# Altium integrated library Resistors.IntLib: 4954 symbols (part 20 of 32)
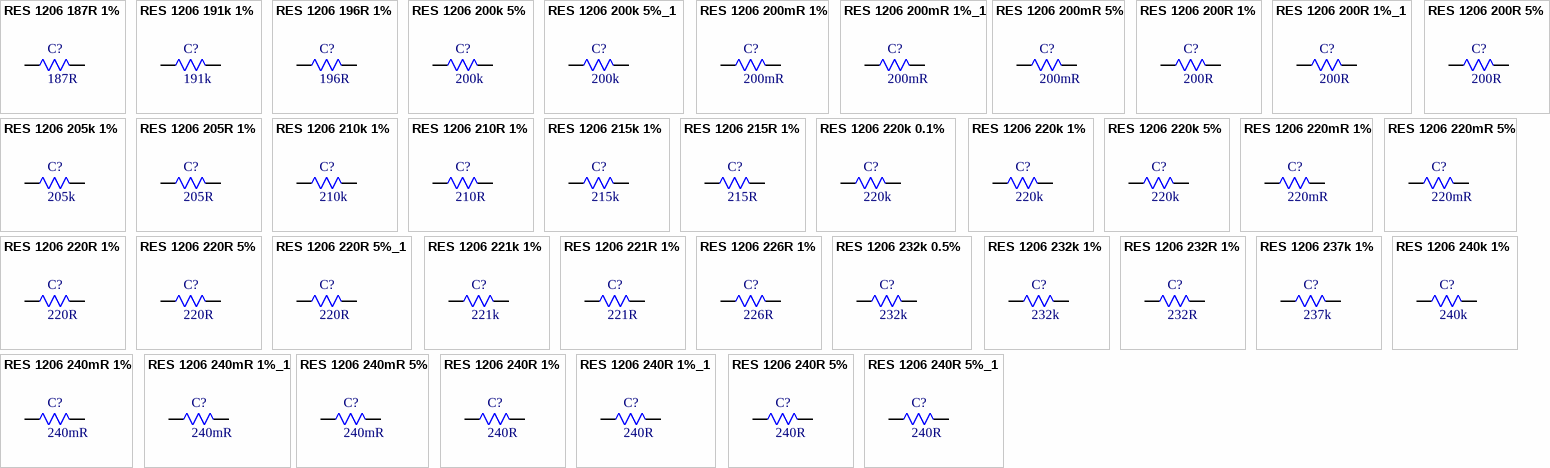
[diagram p142: symbols RES 1206 187R 1% to RES 1206 240R 5%_1]

## RES 1206 240R 5%
designator C?, comment 240R
240R 5% 250mW 1206 Thick Film Resistor; Manufacturer: FOJAN; Manufacturer Part Number: FRC1206J241 TS; Voltage Rating: 200V; Supplier: LCSC; Supplier Part Number: C2907459; Resistance: 240R; Tolerance: 5%; Power: 250mW
footprint RES SMD 1206
pins: 1, 2

## RES 1206 240R 5%_1
designator C?, comment 240R
240R 5% 250mW 1206 Thick Film Resistor; Manufacturer: FOJAN; Manufacturer Part Number: FRD1206J241 TS; Voltage Rating: 200V; Supplier: LCSC; Supplier Part Number: C2934215; Resistance: 240R; Tolerance: 5%; Power: 250mW
footprint RES SMD 1206
pins: 1, 2

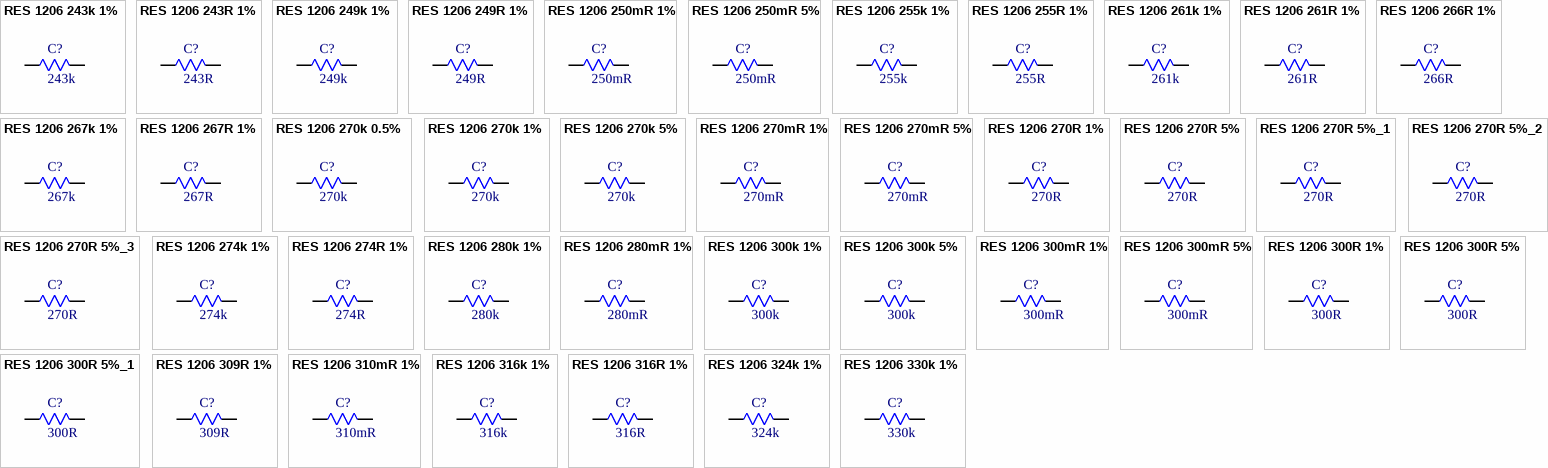
[diagram p76: symbols RES 1206 243k 1% to RES 1206 330k 1%]

## RES 1206 243k 1%
designator C?, comment 243k
250mW 243kR 200V Thick Film Resistor 1% 100ppm/â„ƒ 1206 Chip Resistor - Surface Mount RoHS; Manufacturer: FOJAN; Manufacturer Part Number: FRC1206F2433TS; Supplier: LCSC; Supplier Part Number: C7467380; Resistance: 243k; Tolerance: 1%; Voltage Rating: 200V; Power: 250mW
footprint RES SMD 1206
pins: 1, 2

## RES 1206 243R 1%
designator C?, comment 243R
243R 1% 250mW 1206 Thick Film Resistor; Manufacturer: FOJAN; Manufacturer Part Number: FRC1206F2430TS; Voltage Rating: 200V; Supplier: LCSC; Supplier Part Number: C3000573; Resistance: 243R; Tolerance: 1%; Power: 250mW
footprint RES SMD 1206
pins: 1, 2

## RES 1206 249k 1%
designator C?, comment 249k
249kR 1% 250mW 1206 Thick Film Resistor; Manufacturer: FOJAN; Manufacturer Part Number: FRC1206F2493TS; Voltage Rating: 200V; Supplier: LCSC; Supplier Part Number: C2960689; Resistance: 249k; Tolerance: 1%; Power: 250mW
footprint RES SMD 1206
pins: 1, 2

## RES 1206 249R 1%
designator C?, comment 249R
249R 1% 250mW 1206 Thick Film Resistor; Manufacturer: FOJAN; Manufacturer Part Number: FRC1206F2490TS; Voltage Rating: 200V; Supplier: LCSC; Supplier Part Number: C2974053; Resistance: 249R; Tolerance: 1%; Power: 250mW
footprint RES SMD 1206
pins: 1, 2

## RES 1206 250mR 1%
designator C?, comment 250mR
250mR 1% 250mW 1206 Thick Film Resistor; Manufacturer: FOJAN; Manufacturer Part Number: FRL1206FR250TS; Voltage Rating: 500V; Supplier: LCSC; Supplier Part Number: C2934292; Resistance: 250mR; Tolerance: 1%; Power: 250mW
footprint RES SMD 1206
pins: 1, 2

## RES 1206 250mR 5%
designator C?, comment 250mR
250mR 5% 250mW 1206 Thick Film Resistor; Manufacturer: FOJAN; Manufacturer Part Number: FRL1206JR250TS; Voltage Rating: 500V; Supplier: LCSC; Supplier Part Number: C2934302; Resistance: 250mR; Tolerance: 5%; Power: 250mW
footprint RES SMD 1206
pins: 1, 2

## RES 1206 255k 1%
designator C?, comment 255k
255kR 1% 250mW 1206 Thick Film Resistor; Manufacturer: FOJAN; Manufacturer Part Number: FRC1206F2553TS; Voltage Rating: 200V; Supplier: LCSC; Supplier Part Number: C2999527; Resistance: 255k; Tolerance: 1%; Power: 250mW
footprint RES SMD 1206
pins: 1, 2

## RES 1206 255R 1%
designator C?, comment 255R
255R 1% 250mW 1206 Thick Film Resistor; Manufacturer: FOJAN; Manufacturer Part Number: FRC1206F2550TS; Voltage Rating: 200V; Supplier: LCSC; Supplier Part Number: C5153985; Resistance: 255R; Tolerance: 1%; Power: 250mW
footprint RES SMD 1206
pins: 1, 2

## RES 1206 261k 1%
designator C?, comment 261k
261kR 1% 250mW 1206 Thick Film Resistor; Manufacturer: FOJAN; Manufacturer Part Number: FRC1206F2613TS; Voltage Rating: 200V; Supplier: LCSC; Supplier Part Number: C3000610; Resistance: 261k; Tolerance: 1%; Power: 250mW
footprint RES SMD 1206
pins: 1, 2

## RES 1206 261R 1%
designator C?, comment 261R
261R 1% 250mW 1206 Thick Film Resistor; Manufacturer: FOJAN; Manufacturer Part Number: FRC1206F2610TS; Voltage Rating: 200V; Supplier: LCSC; Supplier Part Number: C2933652; Resistance: 261R; Tolerance: 1%; Power: 250mW
footprint RES SMD 1206
pins: 1, 2

## RES 1206 266R 1%
designator C?, comment 266R
266R 1% 250mW 1206 Thick Film Resistor; Manufacturer: FOJAN; Manufacturer Part Number: FRC1206F2660TS; Voltage Rating: 200V; Supplier: LCSC; Supplier Part Number: C2999475; Resistance: 266R; Tolerance: 1%; Power: 250mW
footprint RES SMD 1206
pins: 1, 2

## RES 1206 267k 1%
designator C?, comment 267k
267kR 1% 250mW 1206 Thick Film Resistor; Manufacturer: FOJAN; Manufacturer Part Number: FRC1206F2673TS; Voltage Rating: 200V; Supplier: LCSC; Supplier Part Number: C5713324; Resistance: 267k; Tolerance: 1%; Power: 250mW
footprint RES SMD 1206
pins: 1, 2

## RES 1206 267R 1%
designator C?, comment 267R
267R 1% 250mW 1206 Thick Film Resistor; Manufacturer: FOJAN; Manufacturer Part Number: FRC1206F2670TS; Voltage Rating: 200V; Supplier: LCSC; Supplier Part Number: C2974054; Resistance: 267R; Tolerance: 1%; Power: 250mW
footprint RES SMD 1206
pins: 1, 2

## RES 1206 270k 0.5%
designator C?, comment 270k
250mW 270kR Thick Film Resistor 100ppm/â„ƒ 0.5% 1206 Chip Resistor - Surface Mount RoHS; Manufacturer: FOJAN; Manufacturer Part Number: FRH1206D2703TS; Supplier: LCSC; Supplier Part Number: C22375092; Resistance: 270k; Tolerance: 0.5%; Power: 250mW
footprint RES SMD 1206
pins: 1, 2

## RES 1206 270k 1%
designator C?, comment 270k
270kR 1% 250mW 1206 Thick Film Resistor; Manufacturer: FOJAN; Manufacturer Part Number: FRC1206F2703TS; Voltage Rating: 200V; Supplier: LCSC; Supplier Part Number: C2960856; Resistance: 270k; Tolerance: 1%; Power: 250mW
footprint RES SMD 1206
pins: 1, 2

## RES 1206 270k 5%
designator C?, comment 270k
270kR 5% 250mW 1206 Thick Film Resistor; Manufacturer: FOJAN; Manufacturer Part Number: FRC1206J274 TS; Voltage Rating: 200V; Supplier: LCSC; Supplier Part Number: C2907462; Resistance: 270k; Tolerance: 5%; Power: 250mW
footprint RES SMD 1206
pins: 1, 2

## RES 1206 270mR 1%
designator C?, comment 270mR
270mR 1% 250mW 1206 Thick Film Resistor; Manufacturer: FOJAN; Manufacturer Part Number: FRL1206FR270TS; Voltage Rating: 500V; Supplier: LCSC; Supplier Part Number: C2934293; Resistance: 270mR; Tolerance: 1%; Power: 250mW
footprint RES SMD 1206
pins: 1, 2

## RES 1206 270mR 5%
designator C?, comment 270mR
270mR 5% 250mW 1206 Thick Film Resistor; Manufacturer: FOJAN; Manufacturer Part Number: FRL1206JR270TS; Voltage Rating: 500V; Supplier: LCSC; Supplier Part Number: C2934303; Resistance: 270mR; Tolerance: 5%; Power: 250mW
footprint RES SMD 1206
pins: 1, 2

## RES 1206 270R 1%
designator C?, comment 270R
270R 1% 250mW 1206 Thick Film Resistor; Manufacturer: FOJAN; Manufacturer Part Number: FRC1206F2700TS; Voltage Rating: 200V; Supplier: LCSC; Supplier Part Number: C2933655; Resistance: 270R; Tolerance: 1%; Power: 250mW
footprint RES SMD 1206
pins: 1, 2

## RES 1206 270R 5%
designator C?, comment 270R
270R 5% 250mW 1206 Thick Film Resistor; Manufacturer: FOJAN; Manufacturer Part Number: FRC1206J271 TS; Voltage Rating: 200V; Supplier: LCSC; Supplier Part Number: C2907463; Resistance: 270R; Tolerance: 5%; Power: 250mW
footprint RES SMD 1206
pins: 1, 2

## RES 1206 270R 5%_1
designator C?, comment 270R
270R 5% 250mW 1206 Thick Film Resistor; Manufacturer: FOJAN; Manufacturer Part Number: FRD1206J271 TS; Voltage Rating: 200V; Supplier: LCSC; Supplier Part Number: C2934220; Resistance: 270R; Tolerance: 5%; Power: 250mW
footprint RES SMD 1206
pins: 1, 2

## RES 1206 270R 5%_2
designator C?, comment 270R
250mW 270R 200V Thick Film Resistor 100ppm/â„ƒ 5% 1206 Chip Resistor - Surface Mount RoHS; Manufacturer: FOJAN; Manufacturer Part Number: FRQ1206J271 TS; Supplier: LCSC; Supplier Part Number: C49196753; Resistance: 270R; Tolerance: 5%; Voltage Rating: 200V; Power: 250mW
footprint RES SMD 1206
pins: 1, 2

## RES 1206 270R 5%_3
designator C?, comment 270R
270R Thick Film Resistor 100ppm/â„ƒ 5% 1206 Chip Resistor - Surface Mount RoHS; Manufacturer: FOJAN; Manufacturer Part Number: FRS1206J271 TS; Supplier: LCSC; Supplier Part Number: C51048118; Resistance: 270R; Tolerance: 5%
footprint RES SMD 1206
pins: 1, 2

## RES 1206 274k 1%
designator C?, comment 274k
274kR 1% 250mW 1206 Thick Film Resistor; Manufacturer: FOJAN; Manufacturer Part Number: FRC1206F2743TS; Voltage Rating: 200V; Supplier: LCSC; Supplier Part Number: C5126129; Resistance: 274k; Tolerance: 1%; Power: 250mW
footprint RES SMD 1206
pins: 1, 2

## RES 1206 274R 1%
designator C?, comment 274R
274R 1% 250mW 1206 Thick Film Resistor; Manufacturer: FOJAN; Manufacturer Part Number: FRC1206F2740TS; Voltage Rating: 200V; Supplier: LCSC; Supplier Part Number: C2974055; Resistance: 274R; Tolerance: 1%; Power: 250mW
footprint RES SMD 1206
pins: 1, 2

## RES 1206 280k 1%
designator C?, comment 280k
280kR 1% 250mW 1206 Thick Film Resistor; Manufacturer: FOJAN; Manufacturer Part Number: FRC1206F2803TS; Voltage Rating: 200V; Supplier: LCSC; Supplier Part Number: C2933657; Resistance: 280k; Tolerance: 1%; Power: 250mW
footprint RES SMD 1206
pins: 1, 2

## RES 1206 280mR 1%
designator C?, comment 280mR
280mR 1% 250mW 1206 Thick Film Resistor; Manufacturer: FOJAN; Manufacturer Part Number: FRL1206FR280TS; Voltage Rating: 500V; Supplier: LCSC; Supplier Part Number: C2999503; Resistance: 280mR; Tolerance: 1%; Power: 250mW
footprint RES SMD 1206
pins: 1, 2

## RES 1206 300k 1%
designator C?, comment 300k
300kR 1% 250mW 1206 Thick Film Resistor; Manufacturer: FOJAN; Manufacturer Part Number: FRC1206F3003TS; Voltage Rating: 200V; Supplier: LCSC; Supplier Part Number: C2933671; Resistance: 300k; Tolerance: 1%; Power: 250mW
footprint RES SMD 1206
pins: 1, 2

## RES 1206 300k 5%
designator C?, comment 300k
300kR 5% 250mW 1206 Thick Film Resistor; Manufacturer: FOJAN; Manufacturer Part Number: FRD1206J304 TS; Voltage Rating: 200V; Supplier: LCSC; Supplier Part Number: C2934224; Resistance: 300k; Tolerance: 5%; Power: 250mW
footprint RES SMD 1206
pins: 1, 2

## RES 1206 300mR 1%
designator C?, comment 300mR
300mR 1% 250mW 1206 Thick Film Resistor; Manufacturer: FOJAN; Manufacturer Part Number: FRL1206FR300TS; Voltage Rating: 500V; Supplier: LCSC; Supplier Part Number: C2907354; Resistance: 300mR; Tolerance: 1%; Power: 250mW
footprint RES SMD 1206
pins: 1, 2

## RES 1206 300mR 5%
designator C?, comment 300mR
300mR 5% 250mW 1206 Thick Film Resistor; Manufacturer: FOJAN; Manufacturer Part Number: FRL1206JR300TS; Voltage Rating: 500V; Supplier: LCSC; Supplier Part Number: C2907398; Resistance: 300mR; Tolerance: 5%; Power: 250mW
footprint RES SMD 1206
pins: 1, 2

## RES 1206 300R 1%
designator C?, comment 300R
300R 1% 250mW 1206 Thick Film Resistor; Manufacturer: FOJAN; Manufacturer Part Number: FRC1206F3000TS; Voltage Rating: 200V; Supplier: LCSC; Supplier Part Number: C2933670; Resistance: 300R; Tolerance: 1%; Power: 250mW
footprint RES SMD 1206
pins: 1, 2

## RES 1206 300R 5%
designator C?, comment 300R
300R 5% 250mW 1206 Thick Film Resistor; Manufacturer: FOJAN; Manufacturer Part Number: FRC1206J301 TS; Voltage Rating: 200V; Supplier: LCSC; Supplier Part Number: C3013269; Resistance: 300R; Tolerance: 5%; Power: 250mW
footprint RES SMD 1206
pins: 1, 2

## RES 1206 300R 5%_1
designator C?, comment 300R
300R 500mW Thick Film Resistor 5% 100ppm/â„ƒ 1206 Chip Resistor - Surface Mount RoHS; Manufacturer: FOJAN; Manufacturer Part Number: FRS1206J301 TS; Supplier: LCSC; Supplier Part Number: C7468013; Resistance: 300R; Tolerance: 5%; Power: 500mW
footprint RES SMD 1206
pins: 1, 2

## RES 1206 309R 1%
designator C?, comment 309R
309R 1% 250mW 1206 Thick Film Resistor; Manufacturer: FOJAN; Manufacturer Part Number: FRC1206F3090TS; Voltage Rating: 200V; Supplier: LCSC; Supplier Part Number: C2933672; Resistance: 309R; Tolerance: 1%; Power: 250mW
footprint RES SMD 1206
pins: 1, 2

## RES 1206 310mR 1%
designator C?, comment 310mR
250mW 310mR Thick Film Resistor 300ppm/â„ƒ 1% 1206 Chip Resistor - Surface Mount RoHS; Manufacturer: FOJAN; Manufacturer Part Number: FRL1206FR310TS; Supplier: LCSC; Supplier Part Number: C7467358; Resistance: 310mR; Tolerance: 1%; Power: 250mW
footprint RES SMD 1206
pins: 1, 2

## RES 1206 316k 1%
designator C?, comment 316k
316kR 1% 250mW 1206 Thick Film Resistor; Manufacturer: FOJAN; Manufacturer Part Number: FRC1206F3163TS; Voltage Rating: 200V; Supplier: LCSC; Supplier Part Number: C2933673; Resistance: 316k; Tolerance: 1%; Power: 250mW
footprint RES SMD 1206
pins: 1, 2

## RES 1206 316R 1%
designator C?, comment 316R
316R 1% 250mW 1206 Thick Film Resistor; Manufacturer: FOJAN; Manufacturer Part Number: FRC1206F3160TS; Voltage Rating: 200V; Supplier: LCSC; Supplier Part Number: C2930424; Resistance: 316R; Tolerance: 1%; Power: 250mW
footprint RES SMD 1206
pins: 1, 2

## RES 1206 324k 1%
designator C?, comment 324k
324kR 1% 250mW 1206 Thick Film Resistor; Manufacturer: FOJAN; Manufacturer Part Number: FRC1206F3243TS; Voltage Rating: 200V; Supplier: LCSC; Supplier Part Number: C5126110; Resistance: 324k; Tolerance: 1%; Power: 250mW
footprint RES SMD 1206
pins: 1, 2

## RES 1206 330k 1%
designator C?, comment 330k
330kR 1% 250mW 1206 Thick Film Resistor; Manufacturer: FOJAN; Manufacturer Part Number: FRC1206F3303TS; Voltage Rating: 200V; Supplier: LCSC; Supplier Part Number: C2933677; Resistance: 330k; Tolerance: 1%; Power: 250mW
footprint RES SMD 1206
pins: 1, 2

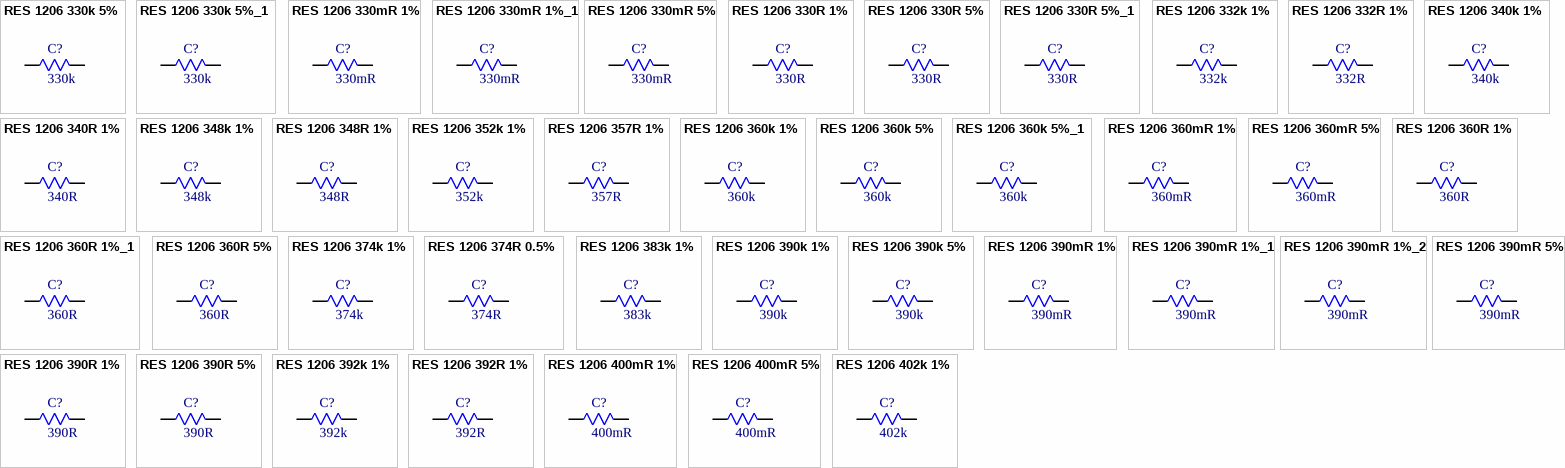
[diagram p77: symbols RES 1206 330k 5% to RES 1206 402k 1%]

## RES 1206 330k 5%
designator C?, comment 330k
330kR 5% 250mW 1206 Thick Film Resistor; Manufacturer: FOJAN; Manufacturer Part Number: FRC1206J334 TS; Voltage Rating: 200V; Supplier: LCSC; Supplier Part Number: C2907481; Resistance: 330k; Tolerance: 5%; Power: 250mW
footprint RES SMD 1206
pins: 1, 2

## RES 1206 330k 5%_1
designator C?, comment 330k
250mW 330kR 200V Thick Film Resistor 100ppm/â„ƒ 5% 1206 Chip Resistor - Surface Mount RoHS; Manufacturer: FOJAN; Manufacturer Part Number: FRR1206J334 TS; Supplier: LCSC; Supplier Part Number: C49196850; Resistance: 330k; Tolerance: 5%; Voltage Rating: 200V; Power: 250mW
footprint RES SMD 1206
pins: 1, 2

## RES 1206 330mR 1%
designator C?, comment 330mR
330mR 1% 250mW 1206 Thick Film Resistor; Manufacturer: FOJAN; Manufacturer Part Number: FRL1206FR330TS; Voltage Rating: 500V; Supplier: LCSC; Supplier Part Number: C2907351; Resistance: 330mR; Tolerance: 1%; Power: 250mW
footprint RES SMD 1206
pins: 1, 2

## RES 1206 330mR 1%_1
designator C?, comment 330mR
500mW 330mR Thick Film Resistor 300ppm/â„ƒ 1% 1206 Chip Resistor - Surface Mount RoHS; Manufacturer: FOJAN; Manufacturer Part Number: FPL1206FR330TS; Supplier: LCSC; Supplier Part Number: C7468697; Resistance: 330mR; Tolerance: 1%; Power: 500mW
footprint RES SMD 1206
pins: 1, 2

## RES 1206 330mR 5%
designator C?, comment 330mR
330mR 5% 250mW 1206 Thick Film Resistor; Manufacturer: FOJAN; Manufacturer Part Number: FRL1206JR330TS; Voltage Rating: 500V; Supplier: LCSC; Supplier Part Number: C2934304; Resistance: 330mR; Tolerance: 5%; Power: 250mW
footprint RES SMD 1206
pins: 1, 2

## RES 1206 330R 1%
designator C?, comment 330R
330R 1% 250mW 1206 Thick Film Resistor; Manufacturer: FOJAN; Manufacturer Part Number: FRC1206F3300TS; Voltage Rating: 200V; Supplier: LCSC; Supplier Part Number: C2933675; Resistance: 330R; Tolerance: 1%; Power: 250mW
footprint RES SMD 1206
pins: 1, 2

## RES 1206 330R 5%
designator C?, comment 330R
330R 5% 250mW 1206 Thick Film Resistor; Manufacturer: FOJAN; Manufacturer Part Number: FRC1206J331 TS; Voltage Rating: 200V; Supplier: LCSC; Supplier Part Number: C2907482; Resistance: 330R; Tolerance: 5%; Power: 250mW
footprint RES SMD 1206
pins: 1, 2

## RES 1206 330R 5%_1
designator C?, comment 330R
330R 5% 250mW 1206 Thick Film Resistor; Manufacturer: FOJAN; Manufacturer Part Number: FRD1206J331 TS; Voltage Rating: 200V; Supplier: LCSC; Supplier Part Number: C2934225; Resistance: 330R; Tolerance: 5%; Power: 250mW
footprint RES SMD 1206
pins: 1, 2

## RES 1206 332k 1%
designator C?, comment 332k
250mW 332kR 200V Thick Film Resistor 100ppm/â„ƒ 1% 1206 Chip Resistor - Surface Mount RoHS; Manufacturer: FOJAN; Manufacturer Part Number: FRC1206F3323TS; Supplier: LCSC; Supplier Part Number: C49010117; Resistance: 332k; Tolerance: 1%; Voltage Rating: 200V; Power: 250mW
footprint RES SMD 1206
pins: 1, 2

## RES 1206 332R 1%
designator C?, comment 332R
250mW 332R Thick Film Resistor 1% 100ppm/â„ƒ 1206 Chip Resistor - Surface Mount RoHS; Manufacturer: FOJAN; Manufacturer Part Number: FRC1206F3320TS; Supplier: LCSC; Supplier Part Number: C7467402; Resistance: 332R; Tolerance: 1%; Power: 250mW
footprint RES SMD 1206
pins: 1, 2

## RES 1206 340k 1%
designator C?, comment 340k
340kR 1% 250mW 1206 Thick Film Resistor; Manufacturer: FOJAN; Manufacturer Part Number: FRC1206F3403TS; Voltage Rating: 200V; Supplier: LCSC; Supplier Part Number: C2999478; Resistance: 340k; Tolerance: 1%; Power: 250mW
footprint RES SMD 1206
pins: 1, 2

## RES 1206 340R 1%
designator C?, comment 340R
340R 1% 250mW 1206 Thick Film Resistor; Manufacturer: FOJAN; Manufacturer Part Number: FRC1206F3400TS; Voltage Rating: 200V; Supplier: LCSC; Supplier Part Number: C2999545; Resistance: 340R; Tolerance: 1%; Power: 250mW
footprint RES SMD 1206
pins: 1, 2

## RES 1206 348k 1%
designator C?, comment 348k
348kR 1% 250mW 1206 Thick Film Resistor; Manufacturer: FOJAN; Manufacturer Part Number: FRC1206F3483TS; Voltage Rating: 200V; Supplier: LCSC; Supplier Part Number: C5126246; Resistance: 348k; Tolerance: 1%; Power: 250mW
footprint RES SMD 1206
pins: 1, 2

## RES 1206 348R 1%
designator C?, comment 348R
348R 1% 250mW 1206 Thick Film Resistor; Manufacturer: FOJAN; Manufacturer Part Number: FRC1206F3480TS; Voltage Rating: 200V; Supplier: LCSC; Supplier Part Number: C2933679; Resistance: 348R; Tolerance: 1%; Power: 250mW
footprint RES SMD 1206
pins: 1, 2

## RES 1206 352k 1%
designator C?, comment 352k
352kR 1% 250mW 1206 Thick Film Resistor; Manufacturer: FOJAN; Manufacturer Part Number: FRC1206F3523TS; Voltage Rating: 200V; Supplier: LCSC; Supplier Part Number: C42372179; Resistance: 352k; Tolerance: 1%; Power: 250mW
footprint RES SMD 1206
pins: 1, 2

## RES 1206 357R 1%
designator C?, comment 357R
357R 1% 250mW 1206 Thick Film Resistor; Manufacturer: FOJAN; Manufacturer Part Number: FRC1206F3570TS; Voltage Rating: 200V; Supplier: LCSC; Supplier Part Number: C3013253; Resistance: 357R; Tolerance: 1%; Power: 250mW
footprint RES SMD 1206
pins: 1, 2

## RES 1206 360k 1%
designator C?, comment 360k
360kR 1% 250mW 1206 Thick Film Resistor; Manufacturer: FOJAN; Manufacturer Part Number: FRC1206F3603TS; Voltage Rating: 200V; Supplier: LCSC; Supplier Part Number: C2933686; Resistance: 360k; Tolerance: 1%; Power: 250mW
footprint RES SMD 1206
pins: 1, 2

## RES 1206 360k 5%
designator C?, comment 360k
360kR 5% 250mW 1206 Thick Film Resistor; Manufacturer: FOJAN; Manufacturer Part Number: FRC1206J364 TS; Voltage Rating: 200V; Supplier: LCSC; Supplier Part Number: C2907485; Resistance: 360k; Tolerance: 5%; Power: 250mW
footprint RES SMD 1206
pins: 1, 2

## RES 1206 360k 5%_1
designator C?, comment 360k
360kR 5% 250mW 1206 Thick Film Resistor; Manufacturer: FOJAN; Manufacturer Part Number: FRD1206J364 TS; Voltage Rating: 200V; Supplier: LCSC; Supplier Part Number: C2934229; Resistance: 360k; Tolerance: 5%; Power: 250mW
footprint RES SMD 1206
pins: 1, 2

## RES 1206 360mR 1%
designator C?, comment 360mR
360mR 1% 250mW 1206 Thick Film Resistor; Manufacturer: FOJAN; Manufacturer Part Number: FRL1206FR360TS; Voltage Rating: 500V; Supplier: LCSC; Supplier Part Number: C2907352; Resistance: 360mR; Tolerance: 1%; Power: 250mW
footprint RES SMD 1206
pins: 1, 2

## RES 1206 360mR 5%
designator C?, comment 360mR
360mR 5% 250mW 1206 Thick Film Resistor; Manufacturer: FOJAN; Manufacturer Part Number: FRL1206JR360TS; Voltage Rating: 500V; Supplier: LCSC; Supplier Part Number: C2934305; Resistance: 360mR; Tolerance: 5%; Power: 250mW
footprint RES SMD 1206
pins: 1, 2

## RES 1206 360R 1%
designator C?, comment 360R
360R 1% 250mW 1206 Thick Film Resistor; Manufacturer: FOJAN; Manufacturer Part Number: FRC1206F3600TS; Voltage Rating: 200V; Supplier: LCSC; Supplier Part Number: C2933683; Resistance: 360R; Tolerance: 1%; Power: 250mW
footprint RES SMD 1206
pins: 1, 2

## RES 1206 360R 1%_1
designator C?, comment 360R
250mW 360R 200V Thick Film Resistor 1% 100ppm/â„ƒ 1206 Chip Resistor - Surface Mount RoHS; Manufacturer: FOJAN; Manufacturer Part Number: FRQ1206F3600TS; Supplier: LCSC; Supplier Part Number: C7468678; Resistance: 360R; Tolerance: 1%; Voltage Rating: 200V; Power: 250mW
footprint RES SMD 1206
pins: 1, 2

## RES 1206 360R 5%
designator C?, comment 360R
360R 5% 250mW 1206 Thick Film Resistor; Manufacturer: FOJAN; Manufacturer Part Number: FRC1206J361 TS; Voltage Rating: 200V; Supplier: LCSC; Supplier Part Number: C2907486; Resistance: 360R; Tolerance: 5%; Power: 250mW
footprint RES SMD 1206
pins: 1, 2

## RES 1206 374k 1%
designator C?, comment 374k
374kR 1% 250mW 1206 Thick Film Resistor; Manufacturer: FOJAN; Manufacturer Part Number: FRC1206F3743TS; Voltage Rating: 200V; Supplier: LCSC; Supplier Part Number: C3000620; Resistance: 374k; Tolerance: 1%; Power: 250mW
footprint RES SMD 1206
pins: 1, 2

## RES 1206 374R 0.5%
designator C?, comment 374R
250mW 374R Thick Film Resistor 100ppm/â„ƒ 0.5% 1206 Chip Resistor - Surface Mount RoHS; Manufacturer: FOJAN; Manufacturer Part Number: FRH1206D3740TS; Supplier: LCSC; Supplier Part Number: C22375102; Resistance: 374R; Tolerance: 0.5%; Power: 250mW
footprint RES SMD 1206
pins: 1, 2

## RES 1206 383k 1%
designator C?, comment 383k
383kR 1% 250mW 1206 Thick Film Resistor; Manufacturer: FOJAN; Manufacturer Part Number: FRC1206F3833TS; Voltage Rating: 200V; Supplier: LCSC; Supplier Part Number: C2960865; Resistance: 383k; Tolerance: 1%; Power: 250mW
footprint RES SMD 1206
pins: 1, 2

## RES 1206 390k 1%
designator C?, comment 390k
390kR 1% 250mW 1206 Thick Film Resistor; Manufacturer: FOJAN; Manufacturer Part Number: FRC1206F3903TS; Voltage Rating: 200V; Supplier: LCSC; Supplier Part Number: C2933692; Resistance: 390k; Tolerance: 1%; Power: 250mW
footprint RES SMD 1206
pins: 1, 2

## RES 1206 390k 5%
designator C?, comment 390k
390kR 5% 250mW 1206 Thick Film Resistor; Manufacturer: FOJAN; Manufacturer Part Number: FRC1206J394 TS; Voltage Rating: 200V; Supplier: LCSC; Supplier Part Number: C2907489; Resistance: 390k; Tolerance: 5%; Power: 250mW
footprint RES SMD 1206
pins: 1, 2

## RES 1206 390mR 1%
designator C?, comment 390mR
390mR 1% 250mW 1206 Thick Film Resistor; Manufacturer: FOJAN; Manufacturer Part Number: FRL1206FR390TS; Voltage Rating: 500V; Supplier: LCSC; Supplier Part Number: C2907353; Resistance: 390mR; Tolerance: 1%; Power: 250mW
footprint RES SMD 1206
pins: 1, 2

## RES 1206 390mR 1%_1
designator C?, comment 390mR
390mR 1% 500mW 1206 Thick Film Resistor; Manufacturer: FOJAN; Manufacturer Part Number: FPL1206FR390TS; Supplier: LCSC; Supplier Part Number: C7468696; Resistance: 390mR; Tolerance: 1%; Power: 500mW
footprint RES SMD 1206
pins: 1, 2

## RES 1206 390mR 1%_2
designator C?, comment 390mR
250mW 390mR Thick Film Resistor 1% 50ppm/â„ƒ 1206 Chip Resistor - Surface Mount RoHS; Manufacturer: FOJAN; Manufacturer Part Number: FQL1206FR390TSV; Supplier: LCSC; Supplier Part Number: C42372231; Resistance: 390mR; Tolerance: 1%; Power: 250mW
footprint RES SMD 1206
pins: 1, 2

## RES 1206 390mR 5%
designator C?, comment 390mR
390mR 5% 250mW 1206 Thick Film Resistor; Manufacturer: FOJAN; Manufacturer Part Number: FRL1206JR390TS; Voltage Rating: 500V; Supplier: LCSC; Supplier Part Number: C2907397; Resistance: 390mR; Tolerance: 5%; Power: 250mW
footprint RES SMD 1206
pins: 1, 2

## RES 1206 390R 1%
designator C?, comment 390R
390R 1% 250mW 1206 Thick Film Resistor; Manufacturer: FOJAN; Manufacturer Part Number: FRC1206F3900TS; Voltage Rating: 200V; Supplier: LCSC; Supplier Part Number: C2930426; Resistance: 390R; Tolerance: 1%; Power: 250mW
footprint RES SMD 1206
pins: 1, 2

## RES 1206 390R 5%
designator C?, comment 390R
390R 5% 250mW 1206 Thick Film Resistor; Manufacturer: FOJAN; Manufacturer Part Number: FRC1206J391TS; Voltage Rating: 200V; Supplier: LCSC; Supplier Part Number: C5154010; Resistance: 390R; Tolerance: 5%; Power: 250mW
footprint RES SMD 1206
pins: 1, 2

## RES 1206 392k 1%
designator C?, comment 392k
392kR 1% 250mW 1206 Thick Film Resistor; Manufacturer: FOJAN; Manufacturer Part Number: FRC1206F3923TS; Voltage Rating: 200V; Supplier: LCSC; Supplier Part Number: C3000582; Resistance: 392k; Tolerance: 1%; Power: 250mW
footprint RES SMD 1206
pins: 1, 2

## RES 1206 392R 1%
designator C?, comment 392R
392R 1% 250mW 1206 Thick Film Resistor; Manufacturer: FOJAN; Manufacturer Part Number: FRC1206F3920TS; Voltage Rating: 200V; Supplier: LCSC; Supplier Part Number: C3013254; Resistance: 392R; Tolerance: 1%; Power: 250mW
footprint RES SMD 1206
pins: 1, 2

## RES 1206 400mR 1%
designator C?, comment 400mR
400mR 1% 250mW 1206 Thick Film Resistor; Manufacturer: FOJAN; Manufacturer Part Number: FRL1206FR400TS; Voltage Rating: 500V; Supplier: LCSC; Supplier Part Number: C2907356; Resistance: 400mR; Tolerance: 1%; Power: 250mW
footprint RES SMD 1206
pins: 1, 2

## RES 1206 400mR 5%
designator C?, comment 400mR
400mR 5% 250mW 1206 Thick Film Resistor; Manufacturer: FOJAN; Manufacturer Part Number: FRL1206JR400TS; Voltage Rating: 500V; Supplier: LCSC; Supplier Part Number: C2934306; Resistance: 400mR; Tolerance: 5%; Power: 250mW
footprint RES SMD 1206
pins: 1, 2

## RES 1206 402k 1%
designator C?, comment 402k
402kR 1% 250mW 1206 Thick Film Resistor; Manufacturer: FOJAN; Manufacturer Part Number: FRC1206F4023TS; Voltage Rating: 200V; Supplier: LCSC; Supplier Part Number: C2933701; Resistance: 402k; Tolerance: 1%; Power: 250mW
footprint RES SMD 1206
pins: 1, 2

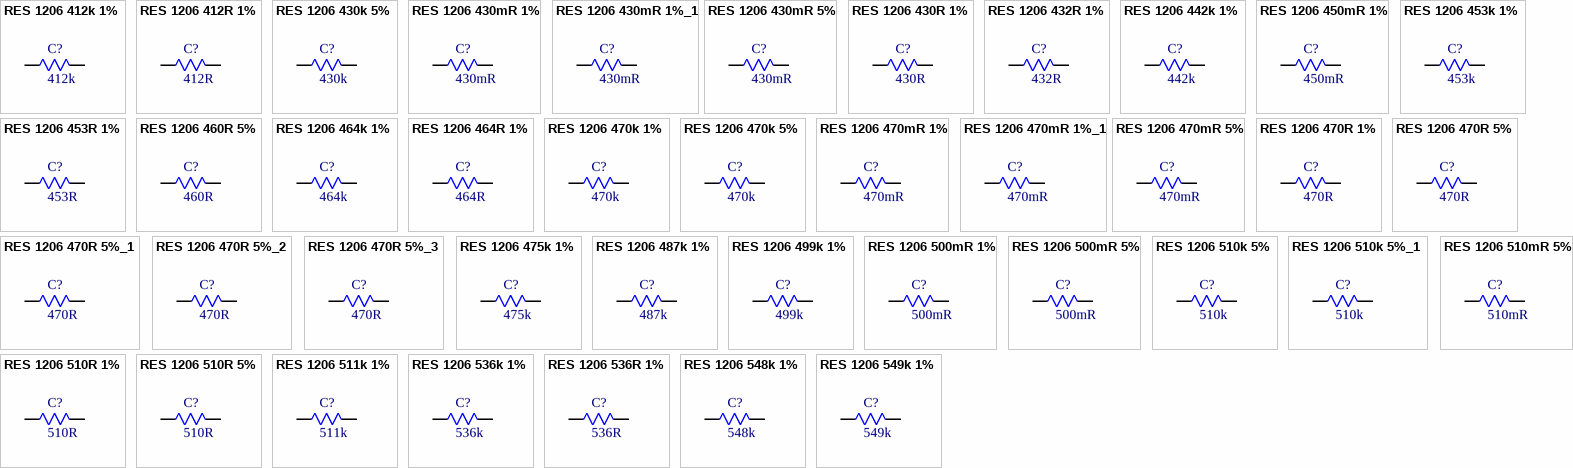
[diagram p78: symbols RES 1206 412k 1% to RES 1206 549k 1%]

## RES 1206 412k 1%
designator C?, comment 412k
412kR 1% 250mW 1206 Thick Film Resistor; Manufacturer: FOJAN; Manufacturer Part Number: FRC1206F4123TS; Voltage Rating: 200V; Supplier: LCSC; Supplier Part Number: C5126198; Resistance: 412k; Tolerance: 1%; Power: 250mW
footprint RES SMD 1206
pins: 1, 2

## RES 1206 412R 1%
designator C?, comment 412R
250mW 412R 200V Thick Film Resistor 100ppm/â„ƒ 1% 1206 Chip Resistor - Surface Mount RoHS; Manufacturer: FOJAN; Manufacturer Part Number: FRC1206F4120TS; Supplier: LCSC; Supplier Part Number: C49010130; Resistance: 412R; Tolerance: 1%; Voltage Rating: 200V; Power: 250mW
footprint RES SMD 1206
pins: 1, 2

## RES 1206 430k 5%
designator C?, comment 430k
430kR 5% 250mW 1206 Thick Film Resistor; Manufacturer: FOJAN; Manufacturer Part Number: FRC1206J434 TS; Voltage Rating: 200V; Supplier: LCSC; Supplier Part Number: C2907502; Resistance: 430k; Tolerance: 5%; Power: 250mW
footprint RES SMD 1206
pins: 1, 2

## RES 1206 430mR 1%
designator C?, comment 430mR
430mR 1% 500mW 1206 Thick Film Resistor; Manufacturer: FOJAN; Manufacturer Part Number: FPL1206FR430TS; Supplier: LCSC; Supplier Part Number: C7467859; Resistance: 430mR; Tolerance: 1%; Power: 500mW
footprint RES SMD 1206
pins: 1, 2

## RES 1206 430mR 1%_1
designator C?, comment 430mR
430mR 1% 250mW 1206 Thick Film Resistor; Manufacturer: FOJAN; Manufacturer Part Number: FRL1206FR430TS; Voltage Rating: 500V; Supplier: LCSC; Supplier Part Number: C2934294; Resistance: 430mR; Tolerance: 1%; Power: 250mW
footprint RES SMD 1206
pins: 1, 2

## RES 1206 430mR 5%
designator C?, comment 430mR
430mR 5% 250mW 1206 Thick Film Resistor; Manufacturer: FOJAN; Manufacturer Part Number: FRL1206JR430TS; Voltage Rating: 500V; Supplier: LCSC; Supplier Part Number: C2934307; Resistance: 430mR; Tolerance: 5%; Power: 250mW
footprint RES SMD 1206
pins: 1, 2

## RES 1206 430R 1%
designator C?, comment 430R
430R 1% 250mW 1206 Thick Film Resistor; Manufacturer: FOJAN; Manufacturer Part Number: FRC1206F4300TS; Voltage Rating: 200V; Supplier: LCSC; Supplier Part Number: C2999487; Resistance: 430R; Tolerance: 1%; Power: 250mW
footprint RES SMD 1206
pins: 1, 2

## RES 1206 432R 1%
designator C?, comment 432R
250mW 432R 200V Thick Film Resistor 1% 1206 Chip Resistor - Surface Mount RoHS; Manufacturer: FOJAN; Manufacturer Part Number: FRC1206F4320TS; Supplier: LCSC; Supplier Part Number: C51048255; Resistance: 432R; Tolerance: 1%; Voltage Rating: 200V; Power: 250mW
footprint RES SMD 1206
pins: 1, 2

## RES 1206 442k 1%
designator C?, comment 442k
442kR 1% 250mW 1206 Thick Film Resistor; Manufacturer: FOJAN; Manufacturer Part Number: FRC1206F4423TS; Voltage Rating: 200V; Supplier: LCSC; Supplier Part Number: C42372181; Resistance: 442k; Tolerance: 1%; Power: 250mW
footprint RES SMD 1206
pins: 1, 2

## RES 1206 450mR 1%
designator C?, comment 450mR
250mW 450mR Thick Film Resistor 300ppm/â„ƒ 1% 1206 Chip Resistor - Surface Mount RoHS; Manufacturer: FOJAN; Manufacturer Part Number: FRL1206FR450TS; Supplier: LCSC; Supplier Part Number: C7467894; Resistance: 450mR; Tolerance: 1%; Power: 250mW
footprint RES SMD 1206
pins: 1, 2

## RES 1206 453k 1%
designator C?, comment 453k
453kR 1% 250mW 1206 Thick Film Resistor; Manufacturer: FOJAN; Manufacturer Part Number: FRC1206F4533TS; Voltage Rating: 200V; Supplier: LCSC; Supplier Part Number: C2999488; Resistance: 453k; Tolerance: 1%; Power: 250mW
footprint RES SMD 1206
pins: 1, 2

## RES 1206 453R 1%
designator C?, comment 453R
250mW 453R 200V Thick Film Resistor 1% 100ppm/â„ƒ 1206 Chip Resistor - Surface Mount RoHS; Manufacturer: FOJAN; Manufacturer Part Number: FRC1206F4530TS; Supplier: LCSC; Supplier Part Number: C7467469; Resistance: 453R; Tolerance: 1%; Voltage Rating: 200V; Power: 250mW
footprint RES SMD 1206
pins: 1, 2

## RES 1206 460R 5%
designator C?, comment 460R
460R 5% 250mW 1206 Thick Film Resistor; Manufacturer: FOJAN; Manufacturer Part Number: FRC1206J461 TS; Voltage Rating: 200V; Supplier: LCSC; Supplier Part Number: C2933787; Resistance: 460R; Tolerance: 5%; Power: 250mW
footprint RES SMD 1206
pins: 1, 2

## RES 1206 464k 1%
designator C?, comment 464k
464kR 1% 250mW 1206 Thick Film Resistor; Manufacturer: FOJAN; Manufacturer Part Number: FRC1206F4643TS; Voltage Rating: 200V; Supplier: LCSC; Supplier Part Number: C5126150; Resistance: 464k; Tolerance: 1%; Power: 250mW
footprint RES SMD 1206
pins: 1, 2

## RES 1206 464R 1%
designator C?, comment 464R
464R 250mW 200V Thick Film Resistor 1% 1206 Chip Resistor - Surface Mount RoHS; Manufacturer: FOJAN; Manufacturer Part Number: FRC1206F4640TS; Supplier: LCSC; Supplier Part Number: C51048273; Resistance: 464R; Tolerance: 1%; Voltage Rating: 200V; Power: 250mW
footprint RES SMD 1206
pins: 1, 2

## RES 1206 470k 1%
designator C?, comment 470k
470kR 1% 250mW 1206 Thick Film Resistor; Manufacturer: FOJAN; Manufacturer Part Number: FRC1206F4703TS; Voltage Rating: 200V; Supplier: LCSC; Supplier Part Number: C2933709; Resistance: 470k; Tolerance: 1%; Power: 250mW
footprint RES SMD 1206
pins: 1, 2

## RES 1206 470k 5%
designator C?, comment 470k
470kR 5% 250mW 1206 Thick Film Resistor; Manufacturer: FOJAN; Manufacturer Part Number: FRC1206J474 TS; Voltage Rating: 200V; Supplier: LCSC; Supplier Part Number: C2907505; Resistance: 470k; Tolerance: 5%; Power: 250mW
footprint RES SMD 1206
pins: 1, 2

## RES 1206 470mR 1%
designator C?, comment 470mR
470mR 1% 250mW 1206 Thick Film Resistor; Manufacturer: FOJAN; Manufacturer Part Number: FRL1206FR470TS; Voltage Rating: 500V; Supplier: LCSC; Supplier Part Number: C2907355; Resistance: 470mR; Tolerance: 1%; Power: 250mW
footprint RES SMD 1206
pins: 1, 2

## RES 1206 470mR 1%_1
designator C?, comment 470mR
500mW 470mR 100ppm/â„ƒ 1% 1206 Chip Resistor - Surface Mount RoHS; Manufacturer: FOJAN; Manufacturer Part Number: FPL1206FR470TS; Supplier: LCSC; Supplier Part Number: C22375129; Resistance: 470mR; Tolerance: 1%; Power: 500mW
footprint RES SMD 1206
pins: 1, 2

## RES 1206 470mR 5%
designator C?, comment 470mR
470mR 5% 250mW 1206 Thick Film Resistor; Manufacturer: FOJAN; Manufacturer Part Number: FRL1206JR470TS; Voltage Rating: 500V; Supplier: LCSC; Supplier Part Number: C2934308; Resistance: 470mR; Tolerance: 5%; Power: 250mW
footprint RES SMD 1206
pins: 1, 2

## RES 1206 470R 1%
designator C?, comment 470R
470R 1% 250mW 1206 Thick Film Resistor; Manufacturer: FOJAN; Manufacturer Part Number: FRC1206F4700TS; Voltage Rating: 200V; Supplier: LCSC; Supplier Part Number: C2933707; Resistance: 470R; Tolerance: 1%; Power: 250mW
footprint RES SMD 1206
pins: 1, 2

## RES 1206 470R 5%
designator C?, comment 470R
470R 5% 250mW 1206 Thick Film Resistor; Manufacturer: FOJAN; Manufacturer Part Number: FRC1206J471TS; Voltage Rating: 200V; Supplier: LCSC; Supplier Part Number: C2930375; Resistance: 470R; Tolerance: 5%; Power: 250mW
footprint RES SMD 1206
pins: 1, 2

## RES 1206 470R 5%_1
designator C?, comment 470R
250mW 470R Thick Film Resistor 5% 100ppm/â„ƒ 1206 Chip Resistor - Surface Mount RoHS; Manufacturer: FOJAN; Manufacturer Part Number: FRQ1206J471 TS; Supplier: LCSC; Supplier Part Number: C7468470; Resistance: 470R; Tolerance: 5%; Power: 250mW
footprint RES SMD 1206
pins: 1, 2

## RES 1206 470R 5%_2
designator C?, comment 470R
500mW 470R Thick Film Resistor 5% 100ppm/â„ƒ 1206 Chip Resistor - Surface Mount RoHS; Manufacturer: FOJAN; Manufacturer Part Number: FRS1206J471 TS; Supplier: LCSC; Supplier Part Number: C7467906; Resistance: 470R; Tolerance: 5%; Power: 500mW
footprint RES SMD 1206
pins: 1, 2

## RES 1206 470R 5%_3
designator C?, comment 470R
250mW 470R 200V Thick Film Resistor 100ppm/â„ƒ 5% 1206 Chip Resistor - Surface Mount RoHS; Manufacturer: FOJAN; Manufacturer Part Number: FRR1206J471 TS; Supplier: LCSC; Supplier Part Number: C49196852; Resistance: 470R; Tolerance: 5%; Voltage Rating: 200V; Power: 250mW
footprint RES SMD 1206
pins: 1, 2

## RES 1206 475k 1%
designator C?, comment 475k
475kR 1% 250mW 1206 Thick Film Resistor; Manufacturer: FOJAN; Manufacturer Part Number: FRC1206F4753TS; Voltage Rating: 200V; Supplier: LCSC; Supplier Part Number: C2933711; Resistance: 475k; Tolerance: 1%; Power: 250mW
footprint RES SMD 1206
pins: 1, 2

## RES 1206 487k 1%
designator C?, comment 487k
487kR 1% 250mW 1206 Thick Film Resistor; Manufacturer: FOJAN; Manufacturer Part Number: FRC1206F4873TS; Voltage Rating: 200V; Supplier: LCSC; Supplier Part Number: C5126247; Resistance: 487k; Tolerance: 1%; Power: 250mW
footprint RES SMD 1206
pins: 1, 2

## RES 1206 499k 1%
designator C?, comment 499k
499kR 1% 250mW 1206 Thick Film Resistor; Manufacturer: FOJAN; Manufacturer Part Number: FRC1206F4993TS; Voltage Rating: 200V; Supplier: LCSC; Supplier Part Number: C2933715; Resistance: 499k; Tolerance: 1%; Power: 250mW
footprint RES SMD 1206
pins: 1, 2

## RES 1206 500mR 1%
designator C?, comment 500mR
500mR 1% 250mW 1206 Thick Film Resistor; Manufacturer: FOJAN; Manufacturer Part Number: FRL1206FR500TS; Voltage Rating: 500V; Supplier: LCSC; Supplier Part Number: C2934295; Resistance: 500mR; Tolerance: 1%; Power: 250mW
footprint RES SMD 1206
pins: 1, 2

## RES 1206 500mR 5%
designator C?, comment 500mR
500mR 5% 250mW 1206 Thick Film Resistor; Manufacturer: FOJAN; Manufacturer Part Number: FRL1206JR500TS; Voltage Rating: 500V; Supplier: LCSC; Supplier Part Number: C2907400; Resistance: 500mR; Tolerance: 5%; Power: 250mW
footprint RES SMD 1206
pins: 1, 2

## RES 1206 510k 5%
designator C?, comment 510k
510kR 5% 250mW 1206 Thick Film Resistor; Manufacturer: FOJAN; Manufacturer Part Number: FRC1206J514 TS; Voltage Rating: 200V; Supplier: LCSC; Supplier Part Number: C2907514; Resistance: 510k; Tolerance: 5%; Power: 250mW
footprint RES SMD 1206
pins: 1, 2

## RES 1206 510k 5%_1
designator C?, comment 510k
250mW 510kR 200V Thick Film Resistor 100ppm/â„ƒ 5% 1206 Chip Resistor - Surface Mount RoHS; Manufacturer: FOJAN; Manufacturer Part Number: FRR1206J514 TS; Supplier: LCSC; Supplier Part Number: C49196853; Resistance: 510k; Tolerance: 5%; Voltage Rating: 200V; Power: 250mW
footprint RES SMD 1206
pins: 1, 2

## RES 1206 510mR 5%
designator C?, comment 510mR
510mR 5% 250mW 1206 Thick Film Resistor; Manufacturer: FOJAN; Manufacturer Part Number: FRL1206JR510TS; Voltage Rating: 500V; Supplier: LCSC; Supplier Part Number: C2907399; Resistance: 510mR; Tolerance: 5%; Power: 250mW
footprint RES SMD 1206
pins: 1, 2

## RES 1206 510R 1%
designator C?, comment 510R
510R 1% 250mW 1206 Thick Film Resistor; Manufacturer: FOJAN; Manufacturer Part Number: FRC1206F5100TS; Voltage Rating: 200V; Supplier: LCSC; Supplier Part Number: C2933720; Resistance: 510R; Tolerance: 1%; Power: 250mW
footprint RES SMD 1206
pins: 1, 2

## RES 1206 510R 5%
designator C?, comment 510R
510R 5% 250mW 1206 Thick Film Resistor; Manufacturer: FOJAN; Manufacturer Part Number: FRC1206J511 TS; Voltage Rating: 200V; Supplier: LCSC; Supplier Part Number: C2907515; Resistance: 510R; Tolerance: 5%; Power: 250mW
footprint RES SMD 1206
pins: 1, 2

## RES 1206 511k 1%
designator C?, comment 511k
511kR 250mW 200V Thick Film Resistor 100ppm/â„ƒ 1% 1206 Chip Resistor - Surface Mount RoHS; Manufacturer: FOJAN; Manufacturer Part Number: FRC1206F5113TS; Supplier: LCSC; Supplier Part Number: C48533778; Resistance: 511k; Tolerance: 1%; Voltage Rating: 200V; Power: 250mW
footprint RES SMD 1206
pins: 1, 2

## RES 1206 536k 1%
designator C?, comment 536k
536kR 1% 250mW 1206 Thick Film Resistor; Manufacturer: FOJAN; Manufacturer Part Number: FRC1206F5363TS; Voltage Rating: 200V; Supplier: LCSC; Supplier Part Number: C2933727; Resistance: 536k; Tolerance: 1%; Power: 250mW
footprint RES SMD 1206
pins: 1, 2

## RES 1206 536R 1%
designator C?, comment 536R
536R 1% 250mW 1206 Thick Film Resistor; Manufacturer: FOJAN; Manufacturer Part Number: FRC1206F5360TS; Voltage Rating: 200V; Supplier: LCSC; Supplier Part Number: C2933725; Resistance: 536R; Tolerance: 1%; Power: 250mW
footprint RES SMD 1206
pins: 1, 2

## RES 1206 548k 1%
designator C?, comment 548k
548kR 1% 250mW 1206 Thick Film Resistor; Manufacturer: FOJAN; Manufacturer Part Number: FRC1206F5483TS; Voltage Rating: 200V; Supplier: LCSC; Supplier Part Number: C42372182; Resistance: 548k; Tolerance: 1%; Power: 250mW
footprint RES SMD 1206
pins: 1, 2

## RES 1206 549k 1%
designator C?, comment 549k
250mW 549kR 200V Thick Film Resistor 1% 1206 Chip Resistor - Surface Mount RoHS; Manufacturer: FOJAN; Manufacturer Part Number: FRC1206F5493TS; Supplier: LCSC; Supplier Part Number: C51048117; Resistance: 549k; Tolerance: 1%; Voltage Rating: 200V; Power: 250mW
footprint RES SMD 1206
pins: 1, 2

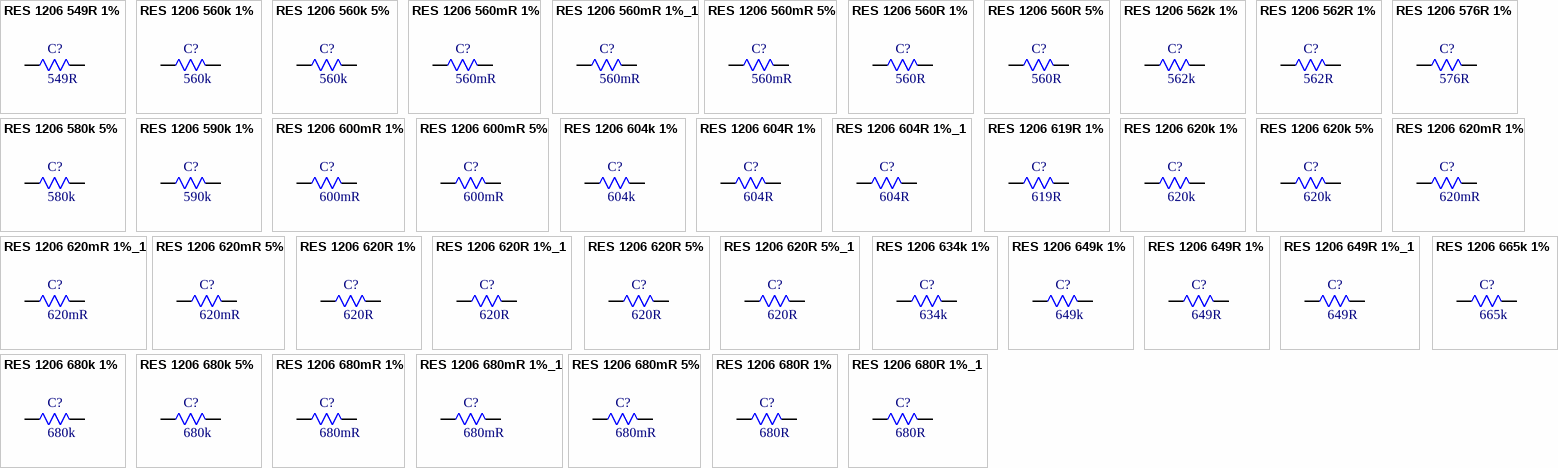
[diagram p79: symbols RES 1206 549R 1% to RES 1206 680R 1%_1]

## RES 1206 549R 1%
designator C?, comment 549R
549R 1% 250mW 1206 Thick Film Resistor; Manufacturer: FOJAN; Manufacturer Part Number: FRC1206F5490TS; Voltage Rating: 200V; Supplier: LCSC; Supplier Part Number: C2999552; Resistance: 549R; Tolerance: 1%; Power: 250mW
footprint RES SMD 1206
pins: 1, 2

## RES 1206 560k 1%
designator C?, comment 560k
560kR 1% 250mW 1206 Thick Film Resistor; Manufacturer: FOJAN; Manufacturer Part Number: FRC1206F5603TS; Voltage Rating: 200V; Supplier: LCSC; Supplier Part Number: C2933732; Resistance: 560k; Tolerance: 1%; Power: 250mW
footprint RES SMD 1206
pins: 1, 2

## RES 1206 560k 5%
designator C?, comment 560k
560kR 5% 250mW 1206 Thick Film Resistor; Manufacturer: FOJAN; Manufacturer Part Number: FRC1206J564 TS; Voltage Rating: 200V; Supplier: LCSC; Supplier Part Number: C2907518; Resistance: 560k; Tolerance: 5%; Power: 250mW
footprint RES SMD 1206
pins: 1, 2

## RES 1206 560mR 1%
designator C?, comment 560mR
560mR 1% 250mW 1206 Thick Film Resistor; Manufacturer: FOJAN; Manufacturer Part Number: FRL1206FR560TS; Voltage Rating: 500V; Supplier: LCSC; Supplier Part Number: C2907358; Resistance: 560mR; Tolerance: 1%; Power: 250mW
footprint RES SMD 1206
pins: 1, 2

## RES 1206 560mR 1%_1
designator C?, comment 560mR
500mW 560mR Thick Film Resistor 200ppm/â„ƒ 1% 1206 Chip Resistor - Surface Mount RoHS; Manufacturer: FOJAN; Manufacturer Part Number: FPL1206FR560TS; Supplier: LCSC; Supplier Part Number: C7467843; Resistance: 560mR; Tolerance: 1%; Power: 500mW
footprint RES SMD 1206
pins: 1, 2

## RES 1206 560mR 5%
designator C?, comment 560mR
560mR 5% 250mW 1206 Thick Film Resistor; Manufacturer: FOJAN; Manufacturer Part Number: FRL1206JR560TS; Voltage Rating: 500V; Supplier: LCSC; Supplier Part Number: C2934309; Resistance: 560mR; Tolerance: 5%; Power: 250mW
footprint RES SMD 1206
pins: 1, 2

## RES 1206 560R 1%
designator C?, comment 560R
560R 1% 250mW 1206 Thick Film Resistor; Manufacturer: FOJAN; Manufacturer Part Number: FRC1206F5600TS; Voltage Rating: 200V; Supplier: LCSC; Supplier Part Number: C2933729; Resistance: 560R; Tolerance: 1%; Power: 250mW
footprint RES SMD 1206
pins: 1, 2

## RES 1206 560R 5%
designator C?, comment 560R
560R 5% 250mW 1206 Thick Film Resistor; Manufacturer: FOJAN; Manufacturer Part Number: FRC1206J561 TS; Voltage Rating: 200V; Supplier: LCSC; Supplier Part Number: C3013270; Resistance: 560R; Tolerance: 5%; Power: 250mW
footprint RES SMD 1206
pins: 1, 2

## RES 1206 562k 1%
designator C?, comment 562k
562kR 1% 250mW 1206 Thick Film Resistor; Manufacturer: FOJAN; Manufacturer Part Number: FRC1206F5623TS; Voltage Rating: 200V; Supplier: LCSC; Supplier Part Number: C5126130; Resistance: 562k; Tolerance: 1%; Power: 250mW
footprint RES SMD 1206
pins: 1, 2

## RES 1206 562R 1%
designator C?, comment 562R
250mW 562R 200V Thick Film Resistor 100ppm/â„ƒ 1% 1206 Chip Resistor - Surface Mount RoHS; Manufacturer: FOJAN; Manufacturer Part Number: FRC1206F5620TS; Supplier: LCSC; Supplier Part Number: C19267402; Resistance: 562R; Tolerance: 1%; Voltage Rating: 200V; Power: 250mW
footprint RES SMD 1206
pins: 1, 2

## RES 1206 576R 1%
designator C?, comment 576R
576R 1% 250mW 1206 Thick Film Resistor; Manufacturer: FOJAN; Manufacturer Part Number: FRC1206F5760TS; Voltage Rating: 200V; Supplier: LCSC; Supplier Part Number: C2999553; Resistance: 576R; Tolerance: 1%; Power: 250mW
footprint RES SMD 1206
pins: 1, 2

## RES 1206 580k 5%
designator C?, comment 580k
580kR 5% 250mW 1206 Thick Film Resistor; Manufacturer: FOJAN; Manufacturer Part Number: FRC1206J584 TS; Voltage Rating: 200V; Supplier: LCSC; Supplier Part Number: C2933790; Resistance: 580k; Tolerance: 5%; Power: 250mW
footprint RES SMD 1206
pins: 1, 2

## RES 1206 590k 1%
designator C?, comment 590k
590kR 1% 250mW 1206 Thick Film Resistor; Manufacturer: FOJAN; Manufacturer Part Number: FRC1206F5903TS; Voltage Rating: 200V; Supplier: LCSC; Supplier Part Number: C2960930; Resistance: 590k; Tolerance: 1%; Power: 250mW
footprint RES SMD 1206
pins: 1, 2

## RES 1206 600mR 1%
designator C?, comment 600mR
600mR 1% 250mW 1206 Thick Film Resistor; Manufacturer: FOJAN; Manufacturer Part Number: FRL1206FR600TS; Voltage Rating: 500V; Supplier: LCSC; Supplier Part Number: C2930340; Resistance: 600mR; Tolerance: 1%; Power: 250mW
footprint RES SMD 1206
pins: 1, 2

## RES 1206 600mR 5%
designator C?, comment 600mR
600mR 5% 250mW 1206 Thick Film Resistor; Manufacturer: FOJAN; Manufacturer Part Number: FRL1206JR600TS; Voltage Rating: 500V; Supplier: LCSC; Supplier Part Number: C5713397; Resistance: 600mR; Tolerance: 5%; Power: 250mW
footprint RES SMD 1206
pins: 1, 2

## RES 1206 604k 1%
designator C?, comment 604k
604kR 1% 250mW 1206 Thick Film Resistor; Manufacturer: FOJAN; Manufacturer Part Number: FRC1206F6043TS; Voltage Rating: 200V; Supplier: LCSC; Supplier Part Number: C5189022; Resistance: 604k; Tolerance: 1%; Power: 250mW
footprint RES SMD 1206
pins: 1, 2

## RES 1206 604R 1%
designator C?, comment 604R
250mW 604R 200V Thick Film Resistor 100ppm/â„ƒ 1% 1206 Chip Resistor - Surface Mount RoHS; Manufacturer: FOJAN; Manufacturer Part Number: FRQ1206F6040TS; Supplier: LCSC; Supplier Part Number: C49196702; Resistance: 604R; Tolerance: 1%; Voltage Rating: 200V; Power: 250mW
footprint RES SMD 1206
pins: 1, 2

## RES 1206 604R 1%_1
designator C?, comment 604R
250mW 604R 200V Thick Film Resistor 100ppm/â„ƒ 1% 1206 Chip Resistor - Surface Mount RoHS; Manufacturer: FOJAN; Manufacturer Part Number: FRC1206F6040TS; Supplier: LCSC; Supplier Part Number: C18164294; Resistance: 604R; Tolerance: 1%; Voltage Rating: 200V; Power: 250mW
footprint RES SMD 1206
pins: 1, 2

## RES 1206 619R 1%
designator C?, comment 619R
250mW 619R 200V Thick Film Resistor 1% 1206 Chip Resistor - Surface Mount RoHS; Manufacturer: FOJAN; Manufacturer Part Number: FRC1206F6190TS; Supplier: LCSC; Supplier Part Number: C51048331; Resistance: 619R; Tolerance: 1%; Voltage Rating: 200V; Power: 250mW
footprint RES SMD 1206
pins: 1, 2

## RES 1206 620k 1%
designator C?, comment 620k
620kR 1% 250mW 1206 Thick Film Resistor; Manufacturer: FOJAN; Manufacturer Part Number: FRC1206F6203TS; Voltage Rating: 200V; Supplier: LCSC; Supplier Part Number: C2933742; Resistance: 620k; Tolerance: 1%; Power: 250mW
footprint RES SMD 1206
pins: 1, 2

## RES 1206 620k 5%
designator C?, comment 620k
620kR 5% 250mW 1206 Thick Film Resistor; Manufacturer: FOJAN; Manufacturer Part Number: FRC1206J624 TS; Voltage Rating: 200V; Supplier: LCSC; Supplier Part Number: C2907524; Resistance: 620k; Tolerance: 5%; Power: 250mW
footprint RES SMD 1206
pins: 1, 2

## RES 1206 620mR 1%
designator C?, comment 620mR
620mR 1% 250mW 1206 Thick Film Resistor; Manufacturer: FOJAN; Manufacturer Part Number: FRL1206FR620TS; Voltage Rating: 500V; Supplier: LCSC; Supplier Part Number: C2907359; Resistance: 620mR; Tolerance: 1%; Power: 250mW
footprint RES SMD 1206
pins: 1, 2

## RES 1206 620mR 1%_1
designator C?, comment 620mR
620mR 500mW Thick Film Resistor 200ppm/â„ƒ 1% 1206 Chip Resistor - Surface Mount RoHS; Manufacturer: FOJAN; Manufacturer Part Number: FPL1206FR620TS; Supplier: LCSC; Supplier Part Number: C7467850; Resistance: 620mR; Tolerance: 1%; Power: 500mW
footprint RES SMD 1206
pins: 1, 2

## RES 1206 620mR 5%
designator C?, comment 620mR
620mR 5% 250mW 1206 Thick Film Resistor; Manufacturer: FOJAN; Manufacturer Part Number: FRL1206JR620TS; Voltage Rating: 500V; Supplier: LCSC; Supplier Part Number: C2907401; Resistance: 620mR; Tolerance: 5%; Power: 250mW
footprint RES SMD 1206
pins: 1, 2

## RES 1206 620R 1%
designator C?, comment 620R
620R 1% 250mW 1206 Thick Film Resistor AEC-Q200; Manufacturer: FOJAN; Manufacturer Part Number: FRQ1206F6200TS; Voltage Rating: 200V; Supplier: LCSC; Supplier Part Number: C5713458; Resistance: 620R; Tolerance: 1%; Power: 250mW
footprint RES SMD 1206
pins: 1, 2

## RES 1206 620R 1%_1
designator C?, comment 620R
620R 1% 250mW 1206 Thick Film Resistor; Manufacturer: FOJAN; Manufacturer Part Number: FRC1206F6200TS; Voltage Rating: 200V; Supplier: LCSC; Supplier Part Number: C2933739; Resistance: 620R; Tolerance: 1%; Power: 250mW
footprint RES SMD 1206
pins: 1, 2

## RES 1206 620R 5%
designator C?, comment 620R
250mW 620R Thick Film Resistor 5% 1206 Chip Resistor - Surface Mount RoHS; Manufacturer: FOJAN; Manufacturer Part Number: FRQ1206J621 TS; Supplier: LCSC; Supplier Part Number: C18164316; Resistance: 620R; Tolerance: 5%; Power: 250mW
footprint RES SMD 1206
pins: 1, 2

## RES 1206 620R 5%_1
designator C?, comment 620R
620R 5% 250mW 1206 Thick Film Resistor; Manufacturer: FOJAN; Manufacturer Part Number: FRC1206J621 TS; Voltage Rating: 200V; Supplier: LCSC; Supplier Part Number: C2933791; Resistance: 620R; Tolerance: 5%; Power: 250mW
footprint RES SMD 1206
pins: 1, 2

## RES 1206 634k 1%
designator C?, comment 634k
634kR 1% 250mW 1206 Thick Film Resistor; Manufacturer: FOJAN; Manufacturer Part Number: FRC1206F6343TS; Voltage Rating: 200V; Supplier: LCSC; Supplier Part Number: C3013262; Resistance: 634k; Tolerance: 1%; Power: 250mW
footprint RES SMD 1206
pins: 1, 2

## RES 1206 649k 1%
designator C?, comment 649k
250mW 649kR 200V Thick Film Resistor 100ppm/â„ƒ 1% 1206 Chip Resistor - Surface Mount RoHS; Manufacturer: FOJAN; Manufacturer Part Number: FRC1206F6493TS; Supplier: LCSC; Supplier Part Number: C18164303; Resistance: 649k; Tolerance: 1%; Voltage Rating: 200V; Power: 250mW
footprint RES SMD 1206
pins: 1, 2

## RES 1206 649R 1%
designator C?, comment 649R
250mW 649R 200V Thick Film Resistor 100ppm/â„ƒ 1% 1206 Chip Resistor - Surface Mount RoHS; Manufacturer: FOJAN; Manufacturer Part Number: FRC1206F6490TS; Supplier: LCSC; Supplier Part Number: C18164297; Resistance: 649R; Tolerance: 1%; Voltage Rating: 200V; Power: 250mW
footprint RES SMD 1206
pins: 1, 2

## RES 1206 649R 1%_1
designator C?, comment 649R
649R 1% 250mW 1206 Thick Film Resistor AEC-Q200; Manufacturer: FOJAN; Manufacturer Part Number: FRQ1206F6490TS; Voltage Rating: 200V; Supplier: LCSC; Supplier Part Number: C5713459; Resistance: 649R; Tolerance: 1%; Power: 250mW
footprint RES SMD 1206
pins: 1, 2

## RES 1206 665k 1%
designator C?, comment 665k
665kR 1% 250mW 1206 Thick Film Resistor; Manufacturer: FOJAN; Manufacturer Part Number: FRC1206F6653TS; Voltage Rating: 200V; Supplier: LCSC; Supplier Part Number: C5126082; Resistance: 665k; Tolerance: 1%; Power: 250mW
footprint RES SMD 1206
pins: 1, 2

## RES 1206 680k 1%
designator C?, comment 680k
680kR 1% 250mW 1206 Thick Film Resistor; Manufacturer: FOJAN; Manufacturer Part Number: FRC1206F6803TS; Voltage Rating: 200V; Supplier: LCSC; Supplier Part Number: C2960750; Resistance: 680k; Tolerance: 1%; Power: 250mW
footprint RES SMD 1206
pins: 1, 2

## RES 1206 680k 5%
designator C?, comment 680k
680kR 5% 250mW 1206 Thick Film Resistor; Manufacturer: FOJAN; Manufacturer Part Number: FRC1206J684 TS; Voltage Rating: 200V; Supplier: LCSC; Supplier Part Number: C2907527; Resistance: 680k; Tolerance: 5%; Power: 250mW
footprint RES SMD 1206
pins: 1, 2

## RES 1206 680mR 1%
designator C?, comment 680mR
680mR 1% 250mW 1206 Thick Film Resistor; Manufacturer: FOJAN; Manufacturer Part Number: FRL1206FR680TS; Voltage Rating: 500V; Supplier: LCSC; Supplier Part Number: C2934296; Resistance: 680mR; Tolerance: 1%; Power: 250mW
footprint RES SMD 1206
pins: 1, 2

## RES 1206 680mR 1%_1
designator C?, comment 680mR
250mW 680mR Thick Film Resistor 1% 50ppm/â„ƒ 1206 Chip Resistor - Surface Mount RoHS; Manufacturer: FOJAN; Manufacturer Part Number: FQL1206FR680TSV; Supplier: LCSC; Supplier Part Number: C42372232; Resistance: 680mR; Tolerance: 1%; Power: 250mW
footprint RES SMD 1206
pins: 1, 2